# EAGLE library part ADG904BRUZ-REEL7 (library ADG904BRUZ-REEL7)
RF Switch ICs W'Band Absorbtive/Refl've 4:1 MPX IC. Source: Datasheet <https://componentsearchengine.com/Datasheets/1/ADG904BRUZ-REEL7.pdf>
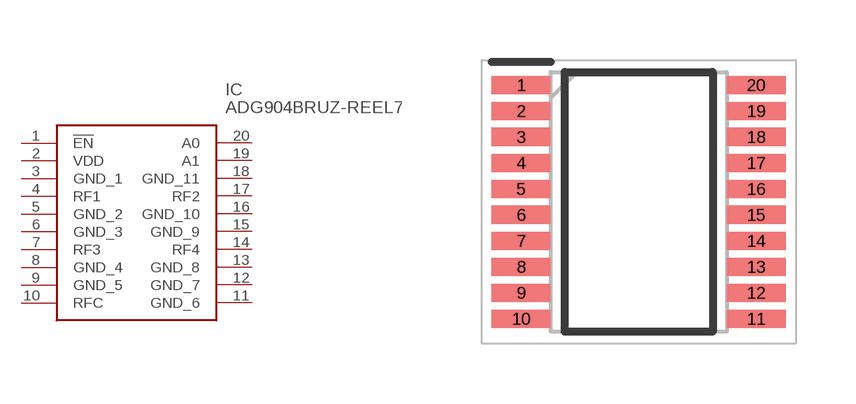
[diagram p0: symbol with the pads of SOP65P640X120-20N; footprint SOP65P640X120-20N]

Designator prefix IC

## ADG904BRUZ-REEL7 (Description: RF Switch ICs W'Band Absorbtive/Refl've 4:1 MPX IC.; Height: 1.2mm; Manufacturer_Name: Analog Devices; Manufacturer_Part_Number: ADG904BRUZ-REEL7; Mouser_Part_Number: 584-ADG904BRUZ-R7; Mouser_Price-Stock: https://www.mouser.com/Search/Refine.aspx?Keyword=584-ADG904BRUZ-R7)  [SOP65P640X120-20N]
1  !EN
2  VDD
3  GND_1
4  RF1
5  GND_2
6  GND_3
7  RF3
8  GND_4
9  GND_5
10  RFC
11  GND_6
12  GND_7
13  GND_8
14  RF4
15  GND_9
16  GND_10
17  RF2
18  GND_11
19  A1
20  A0

## Footprint SOP65P640X120-20N (pad centres in mm)
RU-20 (TSSOP)
smd 1.475 x 0.45: 1 -2.938,2.925; 2 -2.938,2.275; 3 -2.938,1.625; 4 -2.938,0.975; 5 -2.938,0.325; 6 -2.938,-0.325; 7 -2.938,-0.975; 8 -2.938,-1.625; 9 -2.938,-2.275; 10 -2.938,-2.925; 11 2.938,-2.925; 12 2.938,-2.275; 13 2.938,-1.625; 14 2.938,-0.975; 15 2.938,-0.325; 16 2.938,0.325; 17 2.938,0.975; 18 2.938,1.625; 19 2.938,2.275; 20 2.938,2.925